# Altium schematic symbol library SiLabs Microcontroller 8-Bit 8051.SchLib: 120 symbols (part 3 of 9)
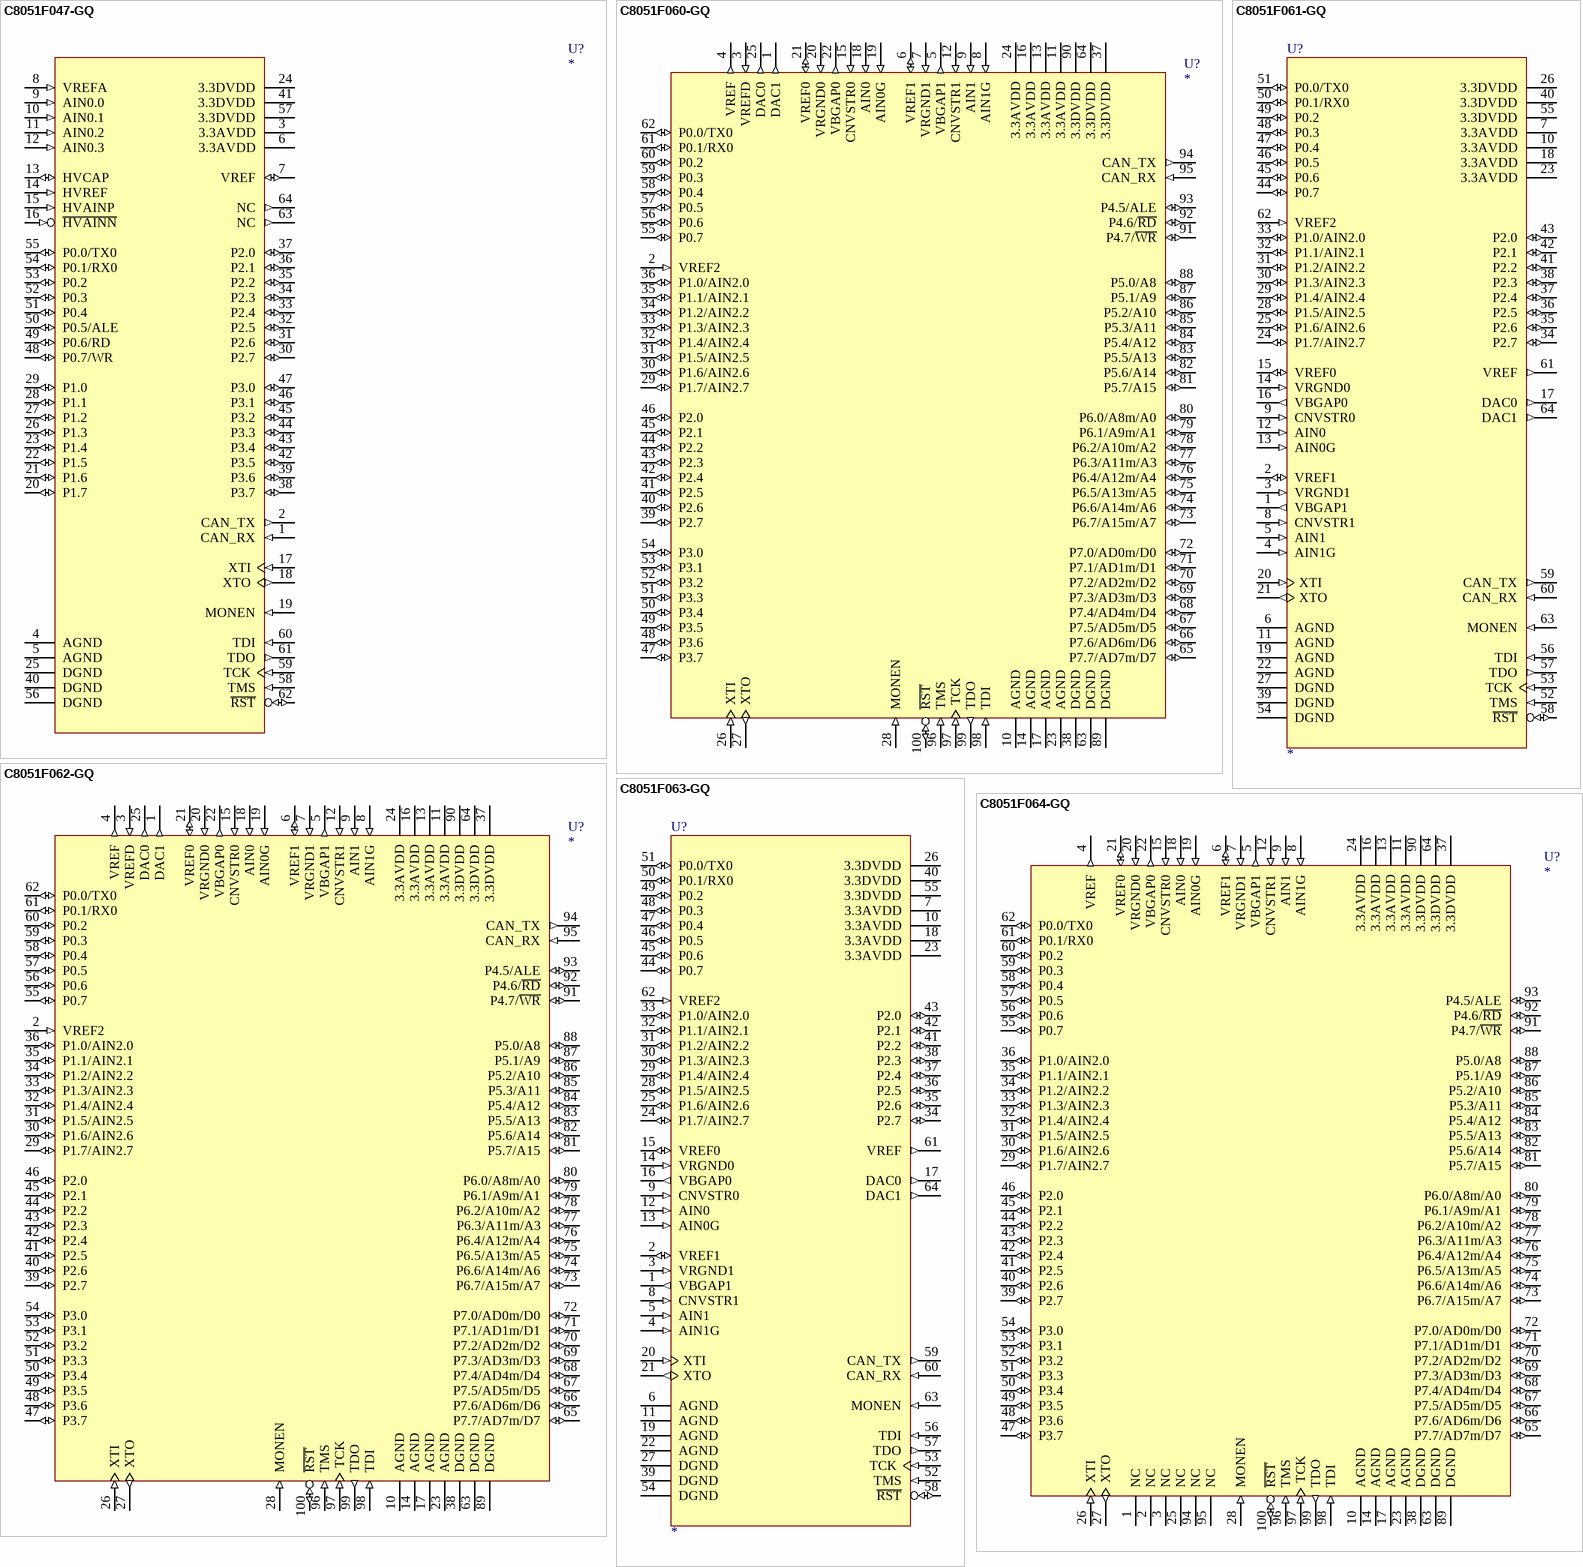
[diagram p16: symbols C8051F047-GQ to C8051F064-GQ]

## C8051F061-GQ
designator U?
CAN 8051 Microcontroller, 25MIPS, 64KiB Flash, 256Byte RAM + 4KiB XRAM, Internal Oscillator, 5-16bit Timer, 2CH 1Msps +/-0.75INL 16bit ADC, 8CH 200ksps 10bit ADC, 2CH 12bit DAC, CAN 2.0B, 2 UART, I2C, SPI, PCA, 3 Comparator, 24GPIO.; Manufacture: Silicon Laboratories; Compliant: RoHS; CompliantInformationSource: Silicon Laboratries; PackageDocument: 2004-07; TempertureRange: Industrial (-40 to +85Cel); ComponentLink1Description: Manufacture Link; ComponentLink1URL: http://www.silabs.com/; ComponentLink2Description: Datasheet; ComponentLink2URL: https://www.silabs.com/Support Documents/TechnicalDocs/C8051F06x.pdf; DatasheetDocument: Rev. 1.2, 2004-07; PackageReference: TQFP-64; Published: 2006-05-07; Publisher: A and A System Co., Ltd.; DigiKeyPartNumber: 336-1215-ND
footprint TQFP-64/e0.5 (TQFP-64; Body Width 12mm; Pitch 0.5mm)
pins: 1 VBGAP1 (out) "ADC1 Bandgap Bypass Pin.", 2 VREF1 (io) "Bandgap Voltage Reference Output for ADC1. ADC1 Voltage Reference Input.", 3 VRGND1 (in) "ADC1 Voltage Reference Ground. This pin should  be grounded if using the ADC.", 4 AIN1G (in) "ADC1 DC Bias Input (See ADC1 Specification for complete description).", 5 AIN1 (in) "ADC1 Signal Input (See ADC1 Specification for complete description).", 6 AGND (power) "Analog Ground. Must be tied to Ground.", 7 3.3AVDD (power) "Analog Supply Voltage. Must be tied to +2.7 to  +3.6 V.", 8 CNVSTR1 (in) "External Conversion Start Source for ADC1", 9 CNVSTR0 (in) "External Conversion Start Source for ADC0", 10 3.3AVDD (power) "Analog Supply Voltage. Must be tied to +2.7 to  +3.6 V.", 11 AGND (power) "Analog Ground. Must be tied to Ground.", 12 AIN0 (in) "ADC0 Input Channel 0 (See ADC0 Specification for complete description).", 13 AIN0G (in) "ADC0 DC Bias Input (See ADC0 Specification for complete description).", 14 VRGND0 (in) "ADC0 Voltage Reference Ground. This pin should  be grounded if using the ADC.", 15 VREF0 (io) "Bandgap Voltage Reference Output for ADC0. ADC0 Voltage Reference Input.", 16 VBGAP0 (out) "ADC0 Bandgap Bypass Pin.", 17 DAC0 (out) "Digital to Analog Converter 0 Voltage Output. (See DAC Specification for complete description).", 18 3.3AVDD (power) "Analog Supply Voltage. Must be tied to +2.7 to  +3.6 V.", 19 AGND (power) "Analog Ground. Must be tied to Ground.", 20 XTI (in) "Crystal Input. This pin is the return for the internal oscillator circuit for a crystal or ceramic resonator. For a precision internal clock, connect a crystal or ceramic resonator from XTAL1 to XTAL2. If overdriven by an external CMOS clock, this become", 21 XTO (out) "Crystal Output. This pin is the excitation driver for a crystal or ceramic resonator.", 22 AGND (power) "Analog Ground. Must be tied to Ground.", 23 3.3AVDD (power) "Analog Supply Voltage. Must be tied to +2.7 to  +3.6 V.", 24 P1.7/AIN2.7 (io) "Port 1.7. See Port Input/Output section for complete description. ADC2 Input Channel 7 (C8051F060/1/2/3 Only).", 25 P1.6/AIN2.6 (io) "Port 1.6. See Port Input/Output section for complete description. ADC2 Input Channel 6 (C8051F060/1/2/3 Only).", 26 3.3DVDD (power) "Digital Supply Voltage. Must be tied to +2.7 to +3.6 V.", 27 DGND (power) "Digital Ground. Must be tied to Ground.", 28 P1.5/AIN2.5 (io) "Port 1.5. See Port Input/Output section for complete description. ADC2 Input Channel 5 (C8051F060/1/2/3 Only).", 29 P1.4/AIN2.4 (io) "Port 1.4. See Port Input/Output section for complete description. ADC2 Input Channel 4 (C8051F060/1/2/3 Only).", 30 P1.3/AIN2.3 (io) "Port 1.3. See Port Input/Output section for complete description. ADC2 Input Channel 3 (C8051F060/1/2/3 Only).", 31 P1.2/AIN2.2 (io) "Port 1.2. See Port Input/Output section for complete description. ADC2 Input Channel 2 (C8051F060/1/2/3 Only).", 32 P1.1/AIN2.1 (io) "Port 1.1. See Port Input/Output section for complete description. ADC2 Input Channel 1 (C8051F060/1/2/3 Only).", 33 P1.0/AIN2.0 (io) "Port 1.0. See Port Input/Output section for complete description. ADC2 Input Channel 0 (C8051F060/1/2/3 Only).", 34 P2.7 (io) "Port 2.7. See Port Input/Output section for complete description.", 35 P2.6 (io) "Port 2.6. See Port Input/Output section for complete description.", 36 P2.5 (io) "Port 2.5. See Port Input/Output section for complete description.", 37 P2.4 (io) "Port 2.4. See Port Input/Output section for complete description.", 38 P2.3 (io) "Port 2.3. See Port Input/Output section for complete description.", 39 DGND (power) "Digital Ground. Must be tied to Ground.", 40 3.3DVDD (power) "Digital Supply Voltage. Must be tied to +2.7 to +3.6 V.", 41 P2.2 (io) "Port 2.2. See Port Input/Output section for complete description.", 42 P2.1 (io) "Port 2.1. See Port Input/Output section for complete description.", 43 P2.0 (io) "Port 2.0. See Port Input/Output section for complete description.", 44 P0.7 (io) "Port 0.7. See Port Input/Output section for complete description.", 45 P0.6 (io) "Port 0.6. See Port Input/Output section for complete description.", 46 P0.5 (io) "Port 0.5. See Port Input/Output section for complete description.", 47 P0.4 (io) "Port 0.4. See Port Input/Output section for complete description.", 48 P0.3 (io) "Port 0.3. See Port Input/Output section for complete description.", 49 P0.2 (io) "Port 0.2. See Port Input/Output section for complete description.", 50 P0.1/RX0 (io) "Port 0.1. See Port Input/Output section for complete description.", 51 P0.0/TX0 (io) "Port 0.0. See Port Input/Output section for complete description.", 52 TMS (in) "JTAG Test Mode Select with internal pullup.", 53 TCK (in) "JTAG Test Clock with internal pullup.", 54 DGND (power) "Digital Ground. Must be tied to Ground.", 55 3.3DVDD (power) "Digital Supply Voltage. Must be tied to +2.7 to +3.6 V.", 56 TDI (in) "JTAG Test Data Input with internal pullup.TDI is latched on the rising edge of TCK.", 57 TDO (out) "JTAG Test Data Output with internal pullup. Data is shifted out on TDO on the falling edge of TCK.  TDO output is a tri-state driver.", 58 ~{RST} (io) "Device Reset. Open-drain output of internal VDD monitor. Is driven low when VDD is < VRST and  MONEN is high. An external source can initiate  a system reset by driving this pin low.", 59 CAN_TX (out) "Controller Area Network Transmit Output.", 60 CAN_RX (in) "Controller Area Network Receive Input.", 61 VREF (out) "Bandgap Voltage Reference Output", 62 VREF2 (in) "ADC2, DAC0, and DAC1 Voltage Reference Input.", 63 MONEN (in) "VDD Monitor Enable. When tied high, this pin enables the internal VDD monitor, which forces a system reset when VDD is < VRST. When tied low, the internal VDD monitor is disabled. This pin must be tied high or low.", 64 DAC1 (out) "Digital to Analog Converter 1 Voltage Output. (See DAC Specification for complete description)."

## C8051F062-GQ
designator U?
CAN 8051 Microcontroller, 25MIPS, 64KiB Flash, 256Byte RAM + 4KiB XRAM, 64KiB EMIF, Internal Oscillator, 5-16bit Timer, 2CH 1Msps 16bit +/-1.5INL ADC, 8CH 200ksps 10bit ADC, 2CH 12bit DAC, CAN 2.0B, 2 UART, I2C, SPI, PCA, 3 Comparator, 59GPIO.; Manufacture: Silicon Laboratories; Compliant: RoHS; CompliantInformationSource: Silicon Laboratries; PackageDocument: 2004-07; TempertureRange: Industrial (-40 to +85Cel); ComponentLink1Description: Manufacture Link; ComponentLink1URL: http://www.silabs.com/; ComponentLink2Description: Datasheet; ComponentLink2URL: https://www.silabs.com/Support Documents/TechnicalDocs/C8051F06x.pdf; DatasheetDocument: Rev. 1.2, 2004-07; PackageReference: TQFP-100; Published: 2006-05-07; Publisher: A and A System Co., Ltd.; DigiKeyPartNumber: 336-1216-ND
footprint TQFP-100/e0.5 (TQFP-100; Body Width 16mm; Pitch 0.5mm)
pins: 1 DAC1 (out) "Digital to Analog Converter 1 Voltage Output. (See DAC Specification for complete description).", 2 VREF2 (in) "ADC2 Voltage Reference Input.", 3 VREFD (in) "DAC0 and DAC1 Voltage Reference Input.", 4 VREF (out) "Bandgap Voltage Reference Output", 5 VBGAP1 (out) "ADC1 Bandgap Bypass Pin.", 6 VREF1 (io) "Bandgap Voltage Reference Output for ADC1. ADC1 Voltage Reference Input.", 7 VRGND1 (in) "ADC1 Voltage Reference Ground. This pin should  be grounded if using the ADC.", 8 AIN1G (in) "ADC1 DC Bias Input (See ADC1 Specification for complete description).", 9 AIN1 (in) "ADC1 Signal Input (See ADC1 Specification for complete description).", 10 AGND (power) "Analog Ground. Must be tied to Ground.", 11 3.3AVDD (power) "Analog Supply Voltage. Must be tied to +2.7 to  +3.6 V.", 12 CNVSTR1 (in) "External Conversion Start Source for ADC1", 13 3.3AVDD (power) "Analog Supply Voltage. Must be tied to +2.7 to  +3.6 V.", 14 AGND (power) "Analog Ground. Must be tied to Ground.", 15 CNVSTR0 (in) "External Conversion Start Source for ADC0", 16 3.3AVDD (power) "Analog Supply Voltage. Must be tied to +2.7 to  +3.6 V.", 17 AGND (power) "Analog Ground. Must be tied to Ground.", 18 AIN0 (in) "ADC0 Input Channel 0 (See ADC0 Specification for complete description).", 19 AIN0G (in) "ADC0 DC Bias Input (See ADC0 Specification for complete description).", 20 VRGND0 (in) "ADC0 Voltage Reference Ground. This pin should  be grounded if using the ADC.", 21 VREF0 (io) "Bandgap Voltage Reference Output for ADC0. ADC0 Voltage Reference Input.", 22 VBGAP0 (out) "ADC0 Bandgap Bypass Pin.", 23 AGND (power) "Analog Ground. Must be tied to Ground.", 24 3.3AVDD (power) "Analog Supply Voltage. Must be tied to +2.7 to  +3.6 V.", 25 DAC0 (out) "Digital to Analog Converter 0 Voltage Output. (See DAC Specification for complete description).", 26 XTI (in) "Crystal Input. This pin is the return for the internal oscillator circuit for a crystal or ceramic resonator. For a precision internal clock, connect a crystal or ceramic resonator from XTAL1 to XTAL2. If overdriven by an external CMOS clock, this become", 27 XTO (out) "Crystal Output. This pin is the excitation driver for a crystal or ceramic resonator.", 28 MONEN (in) "VDD Monitor Enable. When tied high, this pin enables the internal VDD monitor, which forces a system reset when VDD is < VRST. When tied low, the internal VDD monitor is disabled. This pin must be tied high or low.", 29 P1.7/AIN2.7 (io) "Port 1.7. See Port Input/Output section for complete description. ADC2 Input Channel 7 (C8051F060/1/2/3 Only).", 30 P1.6/AIN2.6 (io) "Port 1.6. See Port Input/Output section for complete description. ADC2 Input Channel 6 (C8051F060/1/2/3 Only).", 31 P1.5/AIN2.5 (io) "Port 1.5. See Port Input/Output section for complete description. ADC2 Input Channel 5 (C8051F060/1/2/3 Only).", 32 P1.4/AIN2.4 (io) "Port 1.4. See Port Input/Output section for complete description. ADC2 Input Channel 4 (C8051F060/1/2/3 Only).", 33 P1.3/AIN2.3 (io) "Port 1.3. See Port Input/Output section for complete description. ADC2 Input Channel 3 (C8051F060/1/2/3 Only).", 34 P1.2/AIN2.2 (io) "Port 1.2. See Port Input/Output section for complete description. ADC2 Input Channel 2 (C8051F060/1/2/3 Only).", 35 P1.1/AIN2.1 (io) "Port 1.1. See Port Input/Output section for complete description. ADC2 Input Channel 1 (C8051F060/1/2/3 Only).", 36 P1.0/AIN2.0 (io) "Port 1.0. See Port Input/Output section for complete description. ADC2 Input Channel 0 (C8051F060/1/2/3 Only).", 37 3.3DVDD (power) "Digital Supply Voltage. Must be tied to +2.7 to +3.6 V.", 38 DGND (power) "Digital Ground. Must be tied to Ground.", 39 P2.7 (io) "Port 2.7. See Port Input/Output section for complete description.", 40 P2.6 (io) "Port 2.6. See Port Input/Output section for complete description.", 41 P2.5 (io) "Port 2.5. See Port Input/Output section for complete description.", 42 P2.4 (io) "Port 2.4. See Port Input/Output section for complete description.", 43 P2.3 (io) "Port 2.3. See Port Input/Output section for complete description.", 44 P2.2 (io) "Port 2.2. See Port Input/Output section for complete description.", 45 P2.1 (io) "Port 2.1. See Port Input/Output section for complete description.", 46 P2.0 (io) "Port 2.0. See Port Input/Output section for complete description.", 47 P3.7 (io) "Port 3.7. See Port Input/Output section for complete description.", 48 P3.6 (io) "Port 3.6. See Port Input/Output section for complete description.", 49 P3.5 (io) "Port 3.5. See Port Input/Output section for complete description.", 50 P3.4 (io) "Port 3.4. See Port Input/Output section for complete description.", 51 P3.3 (io) "Port 3.3. See Port Input/Output section for complete description.", 52 P3.2 (io) "Port 3.2. See Port Input/Output section for complete description.", 53 P3.1 (io) "Port 3.1. See Port Input/Output section for complete description.", 54 P3.0 (io) "Port 3.0. See Port Input/Output section for complete description.", 55 P0.7 (io) "Port 0.7. See Port Input/Output section for complete description.", 56 P0.6 (io) "Port 0.6. See Port Input/Output section for complete description.", 57 P0.5 (io) "Port 0.5. See Port Input/Output section for complete description.", 58 P0.4 (io) "Port 0.4. See Port Input/Output section for complete description.", 59 P0.3 (io) "Port 0.3. See Port Input/Output section for complete description.", 60 P0.2 (io) "Port 0.2. See Port Input/Output section for complete description.", 61 P0.1/RX0 (io) "Port 0.1. See Port Input/Output section for complete description.", 62 P0.0/TX0 (io) "Port 0.0. See Port Input/Output section for complete description.", 63 DGND (power) "Digital Ground. Must be tied to Ground.", 64 3.3DVDD (power) "Digital Supply Voltage. Must be tied to +2.7 to +3.6 V.", 65 P7.7/AD7m/D7 (io) "Port 7.7. See Port Input/Output section for complete description.", 66 P7.6/AD6m/D6 (io) "Port 7.6. See Port Input/Output section for complete description.", 67 P7.5/AD5m/D5 (io) "Port 7.5. See Port Input/Output section for complete description.", 68 P7.4/AD4m/D4 (io) "Port 7.4. See Port Input/Output section for complete description.", 69 P7.3/AD3m/D3 (io) "Port 7.3. See Port Input/Output section for complete description.", 70 P7.2/AD2m/D2 (io) "Port 7.2. See Port Input/Output section for complete description.", 71 P7.1/AD1m/D1 (io) "Port 7.1. See Port Input/Output section for complete description.", 72 P7.0/AD0m/D0 (io) "Port 7.0. Bit 0 External Memory Address/Data bus (Multiplexed mode) Bit 0 External Memory Data bus (Non-multiplexed mode) See Port Input/Output section for complete description.", 73 P6.7/A15m/A7 (io) "Port 6.7. See Port Input/Output section for complete description.", 74 P6.6/A14m/A6 (io) "Port 6.6. See Port Input/Output section for complete description.", 75 P6.5/A13m/A5 (io) "Port 6.5. See Port Input/Output section for complete description.", 76 P6.4/A12m/A4 (io) "Port 6.4. See Port Input/Output section for complete description.", 77 P6.3/A11m/A3 (io) "Port 6.3. See Port Input/Output section for complete description.", 78 P6.2/A10m/A2 (io) "Port 6.2. See Port Input/Output section for complete description.", 79 P6.1/A9m/A1 (io) "Port 6.1. See Port Input/Output section for complete description.", 80 P6.0/A8m/A0 (io) "Port6.0. Bit 8 External Memory Address bus (Multiplexed mode) Bit 0 External Memory Address bus (Non-multiplexed mode) See Port Input/Output section for complete description.", 81 P5.7/A15 (io) "Port 5.7. See Port Input/Output section for complete description.", 82 P5.6/A14 (io) "Port 5.6. See Port Input/Output section for complete description.", 83 P5.5/A13 (io) "Port 5.5. See Port Input/Output section for complete description.", 84 P5.4/A12 (io) "Port 5.4. See Port Input/Output section for complete description.", 85 P5.3/A11 (io) "Port 5.3. See Port Input/Output section for complete description.", 86 P5.2/A10 (io) "Port 5.2. See Port Input/Output section for complete description.", 87 P5.1/A9 (io) "Port 5.1. See Port Input/Output section for complete description.", 88 P5.0/A8 (io) "Port 5.0. Bit 8 External Memory Address bus (Non-multiplexed mode) See Port Input/Output section for complete description.", 89 DGND (power) "Digital Ground. Must be tied to Ground.", 90 3.3DVDD (power) "Digital Supply Voltage. Must be tied to +2.7 to +3.6 V.", 91 P4.7/~{WR} (io) "Port 4.7. WR Strobe for External Memory Address bus. See Port Input/Output section for complete description.", 92 P4.6/~{RD} (io) "P4.6. RD Strobe for External Memory Address bus. See Port Input/Output section for complete description.", 93 P4.5/ALE (io) "Port 4.5, ALE Strobe for External Memory Address bus (multiplexed mode) See Port Input/Output section for complete description.", 94 CAN_TX (out) "Controller Area Network Transmit Output.", 95 CAN_RX (in) "Controller Area Network Receive Input.", 96 TMS (in) "JTAG Test Mode Select with internal pullup.", 97 TCK (in) "JTAG Test Clock with internal pullup.", 98 TDI (in) "JTAG Test Data Input with internal pullup.TDI is latched on the rising edge of TCK.", 99 TDO (out) "JTAG Test Data Output with internal pullup. Data is shifted out on TDO on the falling edge of TCK.  TDO output is a tri-state driver.", 100 ~{RST} (io) "Device Reset. Open-drain output of internal VDD monitor. Is driven low when VDD is < VRST and  MONEN is high. An external source can initiate  a system reset by driving this pin low."

## C8051F063-GQ
designator U?
CAN 8051 Microcontroller, 25MIPS, 64KiB Flash, 256Byte RAM + 4KiB XRAM, Internal Oscillator, 5-16bit Timer, 2CH 1Msps +/-1.5INL 16bit ADC, 8CH 200ksps 10bit ADC, 2CH 12bit DAC, CAN 2.0B, 2 UART, I2C, SPI, PCA, 3 Comparator, 24GPIO.; Manufacture: Silicon Laboratories; Compliant: RoHS; CompliantInformationSource: Silicon Laboratries; PackageDocument: 2004-07; TempertureRange: Industrial (-40 to +85Cel); ComponentLink1Description: Manufacture Link; ComponentLink1URL: http://www.silabs.com/; ComponentLink2Description: Datasheet; ComponentLink2URL: https://www.silabs.com/Support Documents/TechnicalDocs/C8051F06x.pdf; DatasheetDocument: Rev. 1.2, 2004-07; PackageReference: TQFP-64; Published: 2006-05-07; Publisher: A and A System Co., Ltd.; DigiKeyPartNumber: 336-1217-ND
footprint TQFP-64/e0.5 (TQFP-64; Body Width 12mm; Pitch 0.5mm)
pins: 1 VBGAP1 (out) "ADC1 Bandgap Bypass Pin.", 2 VREF1 (io) "Bandgap Voltage Reference Output for ADC1. ADC1 Voltage Reference Input.", 3 VRGND1 (in) "ADC1 Voltage Reference Ground. This pin should  be grounded if using the ADC.", 4 AIN1G (in) "ADC1 DC Bias Input (See ADC1 Specification for complete description).", 5 AIN1 (in) "ADC1 Signal Input (See ADC1 Specification for complete description).", 6 AGND (power) "Analog Ground. Must be tied to Ground.", 7 3.3AVDD (power) "Analog Supply Voltage. Must be tied to +2.7 to  +3.6 V.", 8 CNVSTR1 (in) "External Conversion Start Source for ADC1", 9 CNVSTR0 (in) "External Conversion Start Source for ADC0", 10 3.3AVDD (power) "Analog Supply Voltage. Must be tied to +2.7 to  +3.6 V.", 11 AGND (power) "Analog Ground. Must be tied to Ground.", 12 AIN0 (in) "ADC0 Input Channel 0 (See ADC0 Specification for complete description).", 13 AIN0G (in) "ADC0 DC Bias Input (See ADC0 Specification for complete description).", 14 VRGND0 (in) "ADC0 Voltage Reference Ground. This pin should  be grounded if using the ADC.", 15 VREF0 (io) "Bandgap Voltage Reference Output for ADC0. ADC0 Voltage Reference Input.", 16 VBGAP0 (out) "ADC0 Bandgap Bypass Pin.", 17 DAC0 (out) "Digital to Analog Converter 0 Voltage Output. (See DAC Specification for complete description).", 18 3.3AVDD (power) "Analog Supply Voltage. Must be tied to +2.7 to  +3.6 V.", 19 AGND (power) "Analog Ground. Must be tied to Ground.", 20 XTI (in) "Crystal Input. This pin is the return for the internal oscillator circuit for a crystal or ceramic resonator. For a precision internal clock, connect a crystal or ceramic resonator from XTAL1 to XTAL2. If overdriven by an external CMOS clock, this become", 21 XTO (out) "Crystal Output. This pin is the excitation driver for a crystal or ceramic resonator.", 22 AGND (power) "Analog Ground. Must be tied to Ground.", 23 3.3AVDD (power) "Analog Supply Voltage. Must be tied to +2.7 to  +3.6 V.", 24 P1.7/AIN2.7 (io) "Port 1.7. See Port Input/Output section for complete description. ADC2 Input Channel 7 (C8051F060/1/2/3 Only).", 25 P1.6/AIN2.6 (io) "Port 1.6. See Port Input/Output section for complete description. ADC2 Input Channel 6 (C8051F060/1/2/3 Only).", 26 3.3DVDD (power) "Digital Supply Voltage. Must be tied to +2.7 to +3.6 V.", 27 DGND (power) "Digital Ground. Must be tied to Ground.", 28 P1.5/AIN2.5 (io) "Port 1.5. See Port Input/Output section for complete description. ADC2 Input Channel 5 (C8051F060/1/2/3 Only).", 29 P1.4/AIN2.4 (io) "Port 1.4. See Port Input/Output section for complete description. ADC2 Input Channel 4 (C8051F060/1/2/3 Only).", 30 P1.3/AIN2.3 (io) "Port 1.3. See Port Input/Output section for complete description. ADC2 Input Channel 3 (C8051F060/1/2/3 Only).", 31 P1.2/AIN2.2 (io) "Port 1.2. See Port Input/Output section for complete description. ADC2 Input Channel 2 (C8051F060/1/2/3 Only).", 32 P1.1/AIN2.1 (io) "Port 1.1. See Port Input/Output section for complete description. ADC2 Input Channel 1 (C8051F060/1/2/3 Only).", 33 P1.0/AIN2.0 (io) "Port 1.0. See Port Input/Output section for complete description. ADC2 Input Channel 0 (C8051F060/1/2/3 Only).", 34 P2.7 (io) "Port 2.7. See Port Input/Output section for complete description.", 35 P2.6 (io) "Port 2.6. See Port Input/Output section for complete description.", 36 P2.5 (io) "Port 2.5. See Port Input/Output section for complete description.", 37 P2.4 (io) "Port 2.4. See Port Input/Output section for complete description.", 38 P2.3 (io) "Port 2.3. See Port Input/Output section for complete description.", 39 DGND (power) "Digital Ground. Must be tied to Ground.", 40 3.3DVDD (power) "Digital Supply Voltage. Must be tied to +2.7 to +3.6 V.", 41 P2.2 (io) "Port 2.2. See Port Input/Output section for complete description.", 42 P2.1 (io) "Port 2.1. See Port Input/Output section for complete description.", 43 P2.0 (io) "Port 2.0. See Port Input/Output section for complete description.", 44 P0.7 (io) "Port 0.7. See Port Input/Output section for complete description.", 45 P0.6 (io) "Port 0.6. See Port Input/Output section for complete description.", 46 P0.5 (io) "Port 0.5. See Port Input/Output section for complete description.", 47 P0.4 (io) "Port 0.4. See Port Input/Output section for complete description.", 48 P0.3 (io) "Port 0.3. See Port Input/Output section for complete description.", 49 P0.2 (io) "Port 0.2. See Port Input/Output section for complete description.", 50 P0.1/RX0 (io) "Port 0.1. See Port Input/Output section for complete description.", 51 P0.0/TX0 (io) "Port 0.0. See Port Input/Output section for complete description.", 52 TMS (in) "JTAG Test Mode Select with internal pullup.", 53 TCK (in) "JTAG Test Clock with internal pullup.", 54 DGND (power) "Digital Ground. Must be tied to Ground.", 55 3.3DVDD (power) "Digital Supply Voltage. Must be tied to +2.7 to +3.6 V.", 56 TDI (in) "JTAG Test Data Input with internal pullup.TDI is latched on the rising edge of TCK.", 57 TDO (out) "JTAG Test Data Output with internal pullup. Data is shifted out on TDO on the falling edge of TCK.  TDO output is a tri-state driver.", 58 ~{RST} (io) "Device Reset. Open-drain output of internal VDD monitor. Is driven low when VDD is < VRST and  MONEN is high. An external source can initiate  a system reset by driving this pin low.", 59 CAN_TX (out) "Controller Area Network Transmit Output.", 60 CAN_RX (in) "Controller Area Network Receive Input.", 61 VREF (out) "Bandgap Voltage Reference Output", 62 VREF2 (in) "ADC2, DAC0, and DAC1 Voltage Reference Input.", 63 MONEN (in) "VDD Monitor Enable. When tied high, this pin enables the internal VDD monitor, which forces a system reset when VDD is < VRST. When tied low, the internal VDD monitor is disabled. This pin must be tied high or low.", 64 DAC1 (out) "Digital to Analog Converter 1 Voltage Output. (See DAC Specification for complete description)."

## C8051F064-GQ
designator U?
8051 Microcontroller, 25MIPS, 64KiB Flash, 256Byte RAM + 4KiB XRAM, 64KiB EMIF, Internal Oscillator, 5-16bit Timer, 2CH 1Msps 16bit +/-0.75INL ADC, 2 UART, I2C, SPI, PCA, 3 Comparator, 59GPIO.; Manufacture: Silicon Laboratories; Compliant: RoHS; CompliantInformationSource: Silicon Laboratries; PackageDocument: 2004-07; TempertureRange: Industrial (-40 to +85Cel); ComponentLink1Description: Manufacture Link; ComponentLink1URL: http://www.silabs.com/; ComponentLink2Description: Datasheet; ComponentLink2URL: https://www.silabs.com/Support Documents/TechnicalDocs/C8051F06x.pdf; DatasheetDocument: Rev. 1.2, 2004-07; PackageReference: TQFP-100; Published: 2006-05-07; Publisher: A and A System Co., Ltd.; DigiKeyPartNumber: 336-1218-ND
footprint TQFP-100/e0.5 (TQFP-100; Body Width 16mm; Pitch 0.5mm)
pins: 1 NC "No Connection.", 2 NC "No Connection.", 3 NC "No Connection.", 4 VREF (out) "Bandgap Voltage Reference Output", 5 VBGAP1 (out) "ADC1 Bandgap Bypass Pin.", 6 VREF1 (io) "Bandgap Voltage Reference Output for ADC1. ADC1 Voltage Reference Input.", 7 VRGND1 (in) "ADC1 Voltage Reference Ground. This pin should  be grounded if using the ADC.", 8 AIN1G (in) "ADC1 DC Bias Input (See ADC1 Specification for complete description).", 9 AIN1 (in) "ADC1 Signal Input (See ADC1 Specification for complete description).", 10 AGND (power) "Analog Ground. Must be tied to Ground.", 11 3.3AVDD (power) "Analog Supply Voltage. Must be tied to +2.7 to  +3.6 V.", 12 CNVSTR1 (in) "External Conversion Start Source for ADC1", 13 3.3AVDD (power) "Analog Supply Voltage. Must be tied to +2.7 to  +3.6 V.", 14 AGND (power) "Analog Ground. Must be tied to Ground.", 15 CNVSTR0 (in) "External Conversion Start Source for ADC0", 16 3.3AVDD (power) "Analog Supply Voltage. Must be tied to +2.7 to  +3.6 V.", 17 AGND (power) "Analog Ground. Must be tied to Ground.", 18 AIN0 (in) "ADC0 Input Channel 0 (See ADC0 Specification for complete description).", 19 AIN0G (in) "ADC0 DC Bias Input (See ADC0 Specification for complete description).", 20 VRGND0 (in) "ADC0 Voltage Reference Ground. This pin should  be grounded if using the ADC.", 21 VREF0 (io) "Bandgap Voltage Reference Output for ADC0. ADC0 Voltage Reference Input.", 22 VBGAP0 (out) "ADC0 Bandgap Bypass Pin.", 23 AGND (power) "Analog Ground. Must be tied to Ground.", 24 3.3AVDD (power) "Analog Supply Voltage. Must be tied to +2.7 to  +3.6 V.", 25 NC "No Connection.", 26 XTI (in) "Crystal Input. This pin is the return for the internal oscillator circuit for a crystal or ceramic resonator. For a precision internal clock, connect a crystal or ceramic resonator from XTAL1 to XTAL2. If overdriven by an external CMOS clock, this become", 27 XTO (out) "Crystal Output. This pin is the excitation driver for a crystal or ceramic resonator.", 28 MONEN (in) "VDD Monitor Enable. When tied high, this pin enables the internal VDD monitor, which forces a system reset when VDD is < VRST. When tied low, the internal VDD monitor is disabled. This pin must be tied high or low.", 29 P1.7/AIN2.7 (io) "Port 1.7. See Port Input/Output section for complete description. ADC2 Input Channel 7 (C8051F060/1/2/3 Only).", 30 P1.6/AIN2.6 (io) "Port 1.6. See Port Input/Output section for complete description. ADC2 Input Channel 6 (C8051F060/1/2/3 Only).", 31 P1.5/AIN2.5 (io) "Port 1.5. See Port Input/Output section for complete description. ADC2 Input Channel 5 (C8051F060/1/2/3 Only).", 32 P1.4/AIN2.4 (io) "Port 1.4. See Port Input/Output section for complete description. ADC2 Input Channel 4 (C8051F060/1/2/3 Only).", 33 P1.3/AIN2.3 (io) "Port 1.3. See Port Input/Output section for complete description. ADC2 Input Channel 3 (C8051F060/1/2/3 Only).", 34 P1.2/AIN2.2 (io) "Port 1.2. See Port Input/Output section for complete description. ADC2 Input Channel 2 (C8051F060/1/2/3 Only).", 35 P1.1/AIN2.1 (io) "Port 1.1. See Port Input/Output section for complete description. ADC2 Input Channel 1 (C8051F060/1/2/3 Only).", 36 P1.0/AIN2.0 (io) "Port 1.0. See Port Input/Output section for complete description. ADC2 Input Channel 0 (C8051F060/1/2/3 Only).", 37 3.3DVDD (power) "Digital Supply Voltage. Must be tied to +2.7 to +3.6 V.", 38 DGND (power) "Digital Ground. Must be tied to Ground.", 39 P2.7 (io) "Port 2.7. See Port Input/Output section for complete description.", 40 P2.6 (io) "Port 2.6. See Port Input/Output section for complete description.", 41 P2.5 (io) "Port 2.5. See Port Input/Output section for complete description.", 42 P2.4 (io) "Port 2.4. See Port Input/Output section for complete description.", 43 P2.3 (io) "Port 2.3. See Port Input/Output section for complete description.", 44 P2.2 (io) "Port 2.2. See Port Input/Output section for complete description.", 45 P2.1 (io) "Port 2.1. See Port Input/Output section for complete description.", 46 P2.0 (io) "Port 2.0. See Port Input/Output section for complete description.", 47 P3.7 (io) "Port 3.7. See Port Input/Output section for complete description.", 48 P3.6 (io) "Port 3.6. See Port Input/Output section for complete description.", 49 P3.5 (io) "Port 3.5. See Port Input/Output section for complete description.", 50 P3.4 (io) "Port 3.4. See Port Input/Output section for complete description.", 51 P3.3 (io) "Port 3.3. See Port Input/Output section for complete description.", 52 P3.2 (io) "Port 3.2. See Port Input/Output section for complete description.", 53 P3.1 (io) "Port 3.1. See Port Input/Output section for complete description.", 54 P3.0 (io) "Port 3.0. See Port Input/Output section for complete description.", 55 P0.7 (io) "Port 0.7. See Port Input/Output section for complete description.", 56 P0.6 (io) "Port 0.6. See Port Input/Output section for complete description.", 57 P0.5 (io) "Port 0.5. See Port Input/Output section for complete description.", 58 P0.4 (io) "Port 0.4. See Port Input/Output section for complete description.", 59 P0.3 (io) "Port 0.3. See Port Input/Output section for complete description.", 60 P0.2 (io) "Port 0.2. See Port Input/Output section for complete description.", 61 P0.1/RX0 (io) "Port 0.1. See Port Input/Output section for complete description.", 62 P0.0/TX0 (io) "Port 0.0. See Port Input/Output section for complete description.", 63 DGND (power) "Digital Ground. Must be tied to Ground.", 64 3.3DVDD (power) "Digital Supply Voltage. Must be tied to +2.7 to +3.6 V.", 65 P7.7/AD7m/D7 (io) "Port 7.7. See Port Input/Output section for complete description.", 66 P7.6/AD6m/D6 (io) "Port 7.6. See Port Input/Output section for complete description.", 67 P7.5/AD5m/D5 (io) "Port 7.5. See Port Input/Output section for complete description.", 68 P7.4/AD4m/D4 (io) "Port 7.4. See Port Input/Output section for complete description.", 69 P7.3/AD3m/D3 (io) "Port 7.3. See Port Input/Output section for complete description.", 70 P7.2/AD2m/D2 (io) "Port 7.2. See Port Input/Output section for complete description.", 71 P7.1/AD1m/D1 (io) "Port 7.1. See Port Input/Output section for complete description.", 72 P7.0/AD0m/D0 (io) "Port 7.0. Bit 0 External Memory Address/Data bus (Multiplexed mode) Bit 0 External Memory Data bus (Non-multiplexed mode) See Port Input/Output section for complete description.", 73 P6.7/A15m/A7 (io) "Port 6.7. See Port Input/Output section for complete description.", 74 P6.6/A14m/A6 (io) "Port 6.6. See Port Input/Output section for complete description.", 75 P6.5/A13m/A5 (io) "Port 6.5. See Port Input/Output section for complete description.", 76 P6.4/A12m/A4 (io) "Port 6.4. See Port Input/Output section for complete description.", 77 P6.3/A11m/A3 (io) "Port 6.3. See Port Input/Output section for complete description.", 78 P6.2/A10m/A2 (io) "Port 6.2. See Port Input/Output section for complete description.", 79 P6.1/A9m/A1 (io) "Port 6.1. See Port Input/Output section for complete description.", 80 P6.0/A8m/A0 (io) "Port6.0. Bit 8 External Memory Address bus (Multiplexed mode) Bit 0 External Memory Address bus (Non-multiplexed mode) See Port Input/Output section for complete description.", 81 P5.7/A15 (io) "Port 5.7. See Port Input/Output section for complete description.", 82 P5.6/A14 (io) "Port 5.6. See Port Input/Output section for complete description.", 83 P5.5/A13 (io) "Port 5.5. See Port Input/Output section for complete description.", 84 P5.4/A12 (io) "Port 5.4. See Port Input/Output section for complete description.", 85 P5.3/A11 (io) "Port 5.3. See Port Input/Output section for complete description.", 86 P5.2/A10 (io) "Port 5.2. See Port Input/Output section for complete description.", 87 P5.1/A9 (io) "Port 5.1. See Port Input/Output section for complete description.", 88 P5.0/A8 (io) "Port 5.0. Bit 8 External Memory Address bus (Non-multiplexed mode) See Port Input/Output section for complete description.", 89 DGND (power) "Digital Ground. Must be tied to Ground.", 90 3.3DVDD (power) "Digital Supply Voltage. Must be tied to +2.7 to +3.6 V.", 91 P4.7/~{WR} (io) "Port 4.7. WR Strobe for External Memory Address bus. See Port Input/Output section for complete description.", 92 P4.6/~{RD} (io) "P4.6. RD Strobe for External Memory Address bus. See Port Input/Output section for complete description.", 93 P4.5/ALE (io) "Port 4.5, ALE Strobe for External Memory Address bus (multiplexed mode) See Port Input/Output section for complete description.", 94 NC "No Connection.", 95 NC "No Connection.", 96 TMS (in) "JTAG Test Mode Select with internal pullup.", 97 TCK (in) "JTAG Test Clock with internal pullup.", 98 TDI (in) "JTAG Test Data Input with internal pullup.TDI is latched on the rising edge of TCK.", 99 TDO (out) "JTAG Test Data Output with internal pullup. Data is shifted out on TDO on the falling edge of TCK.  TDO output is a tri-state driver.", 100 ~{RST} (io) "Device Reset. Open-drain output of internal VDD monitor. Is driven low when VDD is < VRST and  MONEN is high. An external source can initiate  a system reset by driving this pin low."

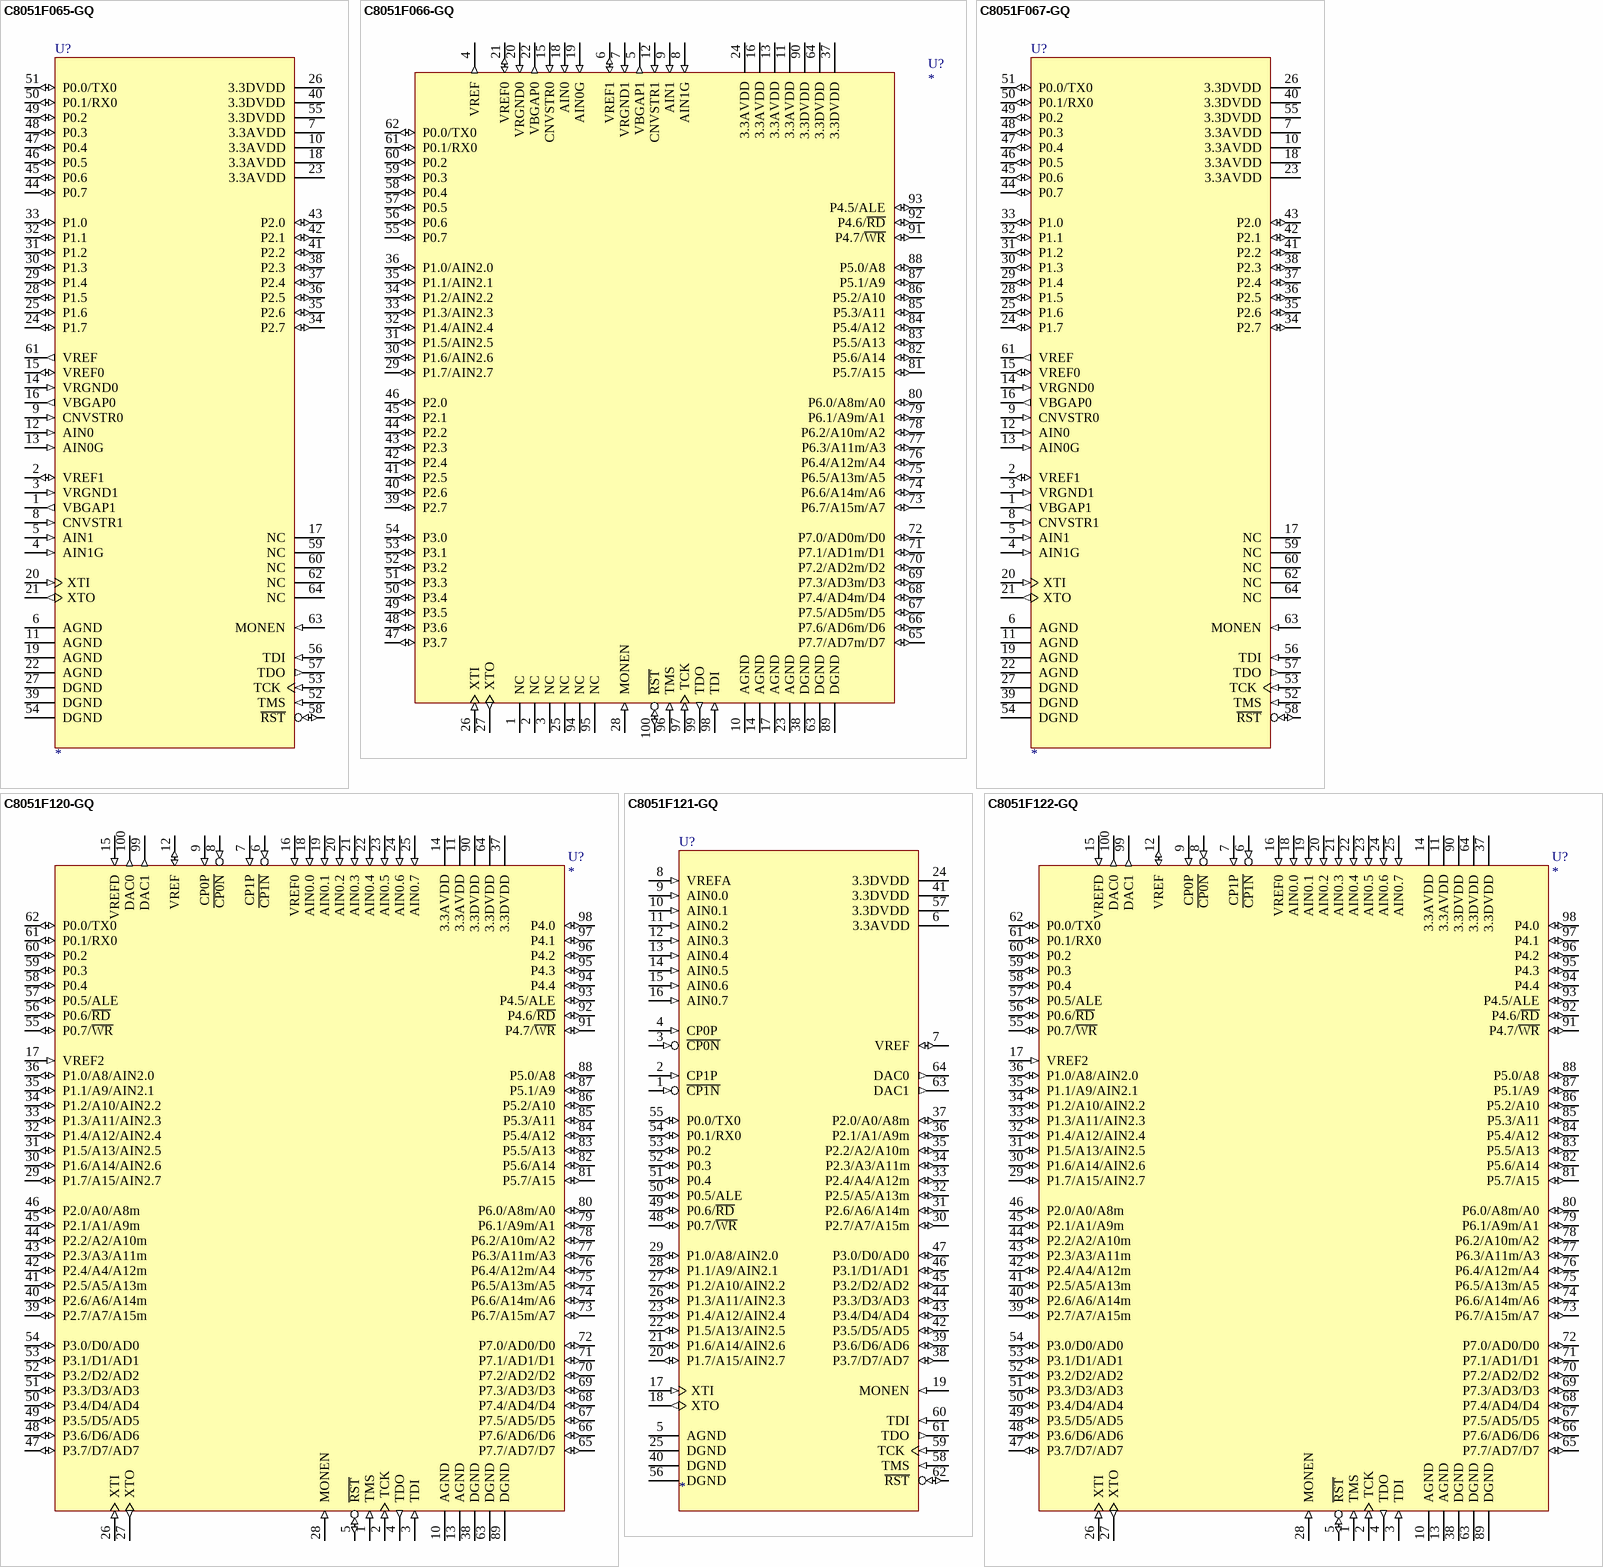
[diagram p7: symbols C8051F065-GQ to C8051F122-GQ]

## C8051F065-GQ
designator U?
8051 Microcontroller, 25MIPS, 64KiB Flash, 256Byte RAM + 4KiB XRAM, Internal Oscillator, 5-16bit Timer, 2CH 1Msps +/-0.75INL 16bit ADC, 2 UART, I2C, SPI, PCA, 3 Comparator, 24GPIO.; Manufacture: Silicon Laboratories; Compliant: RoHS; CompliantInformationSource: Silicon Laboratries; PackageDocument: 2004-07; TempertureRange: Industrial (-40 to +85Cel); ComponentLink1Description: Manufacture Link; ComponentLink1URL: http://www.silabs.com/; ComponentLink2Description: Datasheet; ComponentLink2URL: https://www.silabs.com/Support Documents/TechnicalDocs/C8051F06x.pdf; DatasheetDocument: Rev. 1.2, 2004-07; PackageReference: TQFP-64; Published: 2006-05-07; Publisher: A and A System Co., Ltd.; DigiKeyPartNumber: 336-1220-ND
footprint TQFP-64/e0.5 (TQFP-64; Body Width 12mm; Pitch 0.5mm)
pins: 1 VBGAP1 (out) "ADC1 Bandgap Bypass Pin.", 2 VREF1 (io) "Bandgap Voltage Reference Output for ADC1. ADC1 Voltage Reference Input.", 3 VRGND1 (in) "ADC1 Voltage Reference Ground. This pin should  be grounded if using the ADC.", 4 AIN1G (in) "ADC1 DC Bias Input (See ADC1 Specification for complete description).", 5 AIN1 (in) "ADC1 Signal Input (See ADC1 Specification for complete description).", 6 AGND (power) "Analog Ground. Must be tied to Ground.", 7 3.3AVDD (power) "Analog Supply Voltage. Must be tied to +2.7 to  +3.6 V.", 8 CNVSTR1 (in) "External Conversion Start Source for ADC1", 9 CNVSTR0 (in) "External Conversion Start Source for ADC0", 10 3.3AVDD (power) "Analog Supply Voltage. Must be tied to +2.7 to  +3.6 V.", 11 AGND (power) "Analog Ground. Must be tied to Ground.", 12 AIN0 (in) "ADC0 Input Channel 0 (See ADC0 Specification for complete description).", 13 AIN0G (in) "ADC0 DC Bias Input (See ADC0 Specification for complete description).", 14 VRGND0 (in) "ADC0 Voltage Reference Ground. This pin should  be grounded if using the ADC.", 15 VREF0 (io) "Bandgap Voltage Reference Output for ADC0. ADC0 Voltage Reference Input.", 16 VBGAP0 (out) "ADC0 Bandgap Bypass Pin.", 17 NC "No Connection.", 18 3.3AVDD (power) "Analog Supply Voltage. Must be tied to +2.7 to  +3.6 V.", 19 AGND (power) "Analog Ground. Must be tied to Ground.", 20 XTI (in) "Crystal Input. This pin is the return for the internal oscillator circuit for a crystal or ceramic resonator. For a precision internal clock, connect a crystal or ceramic resonator from XTAL1 to XTAL2. If overdriven by an external CMOS clock, this become", 21 XTO (out) "Crystal Output. This pin is the excitation driver for a crystal or ceramic resonator.", 22 AGND (power) "Analog Ground. Must be tied to Ground.", 23 3.3AVDD (power) "Analog Supply Voltage. Must be tied to +2.7 to  +3.6 V.", 24 P1.7 (io) "Port 1.7. See Port Input/Output section for complete description.", 25 P1.6 (io) "Port 1.6. See Port Input/Output section for complete description.", 26 3.3DVDD (power) "Digital Supply Voltage. Must be tied to +2.7 to +3.6 V.", 27 DGND (power) "Digital Ground. Must be tied to Ground.", 28 P1.5 (io) "Port 1.5. See Port Input/Output section for complete description.", 29 P1.4 (io) "Port 1.4. See Port Input/Output section for complete description.", 30 P1.3 (io) "Port 1.3. See Port Input/Output section for complete description.", 31 P1.2 (io) "Port 1.2. See Port Input/Output section for complete description.", 32 P1.1 (io) "Port 1.1. See Port Input/Output section for complete description.", 33 P1.0 (io) "Port 1.0. See Port Input/Output section for complete description.", 34 P2.7 (io) "Port 2.7. See Port Input/Output section for complete description.", 35 P2.6 (io) "Port 2.6. See Port Input/Output section for complete description.", 36 P2.5 (io) "Port 2.5. See Port Input/Output section for complete description.", 37 P2.4 (io) "Port 2.4. See Port Input/Output section for complete description.", 38 P2.3 (io) "Port 2.3. See Port Input/Output section for complete description.", 39 DGND (power) "Digital Ground. Must be tied to Ground.", 40 3.3DVDD (power) "Digital Supply Voltage. Must be tied to +2.7 to +3.6 V.", 41 P2.2 (io) "Port 2.2. See Port Input/Output section for complete description.", 42 P2.1 (io) "Port 2.1. See Port Input/Output section for complete description.", 43 P2.0 (io) "Port 2.0. See Port Input/Output section for complete description.", 44 P0.7 (io) "Port 0.7. See Port Input/Output section for complete description.", 45 P0.6 (io) "Port 0.6. See Port Input/Output section for complete description.", 46 P0.5 (io) "Port 0.5. See Port Input/Output section for complete description.", 47 P0.4 (io) "Port 0.4. See Port Input/Output section for complete description.", 48 P0.3 (io) "Port 0.3. See Port Input/Output section for complete description.", 49 P0.2 (io) "Port 0.2. See Port Input/Output section for complete description.", 50 P0.1/RX0 (io) "Port 0.1. See Port Input/Output section for complete description.", 51 P0.0/TX0 (io) "Port 0.0. See Port Input/Output section for complete description.", 52 TMS (in) "JTAG Test Mode Select with internal pullup.", 53 TCK (in) "JTAG Test Clock with internal pullup.", 54 DGND (power) "Digital Ground. Must be tied to Ground.", 55 3.3DVDD (power) "Digital Supply Voltage. Must be tied to +2.7 to +3.6 V.", 56 TDI (in) "JTAG Test Data Input with internal pullup.TDI is latched on the rising edge of TCK.", 57 TDO (out) "JTAG Test Data Output with internal pullup. Data is shifted out on TDO on the falling edge of TCK.  TDO output is a tri-state driver.", 58 ~{RST} (io) "Device Reset. Open-drain output of internal VDD monitor. Is driven low when VDD is < VRST and  MONEN is high. An external source can initiate  a system reset by driving this pin low.", 59 NC "No Connection.", 60 NC "No Connection.", 61 VREF (out) "Bandgap Voltage Reference Output", 62 NC "No Connection.", 63 MONEN (in) "VDD Monitor Enable. When tied high, this pin enables the internal VDD monitor, which forces a system reset when VDD is < VRST. When tied low, the internal VDD monitor is disabled. This pin must be tied high or low.", 64 NC "No Connection."

## C8051F066-GQ
designator U?
8051 Microcontroller, 25MIPS, 32KiB Flash, 256Byte RAM + 4KiB XRAM, 64KiB EMIF, Internal Oscillator, 5-16bit Timer, 2CH 1Msps 16bit +/-0.75INL ADC, 2 UART, I2C, SPI, PCA, 3 Comparator, 59GPIO.; Manufacture: Silicon Laboratories; Compliant: RoHS; CompliantInformationSource: Silicon Laboratries; PackageDocument: 2004-07; TempertureRange: Industrial (-40 to +85Cel); ComponentLink1Description: Manufacture Link; ComponentLink1URL: http://www.silabs.com/; ComponentLink2Description: Datasheet; ComponentLink2URL: https://www.silabs.com/Support Documents/TechnicalDocs/C8051F06x.pdf; DatasheetDocument: Rev. 1.2, 2004-07; PackageReference: TQFP-100; Published: 2006-05-07; Publisher: A and A System Co., Ltd.; DigiKeyPartNumber: 336-1221-ND
footprint TQFP-100/e0.5 (TQFP-100; Body Width 16mm; Pitch 0.5mm)
pins: 1 NC "No Connection.", 2 NC "No Connection.", 3 NC "No Connection.", 4 VREF (out) "Bandgap Voltage Reference Output", 5 VBGAP1 (out) "ADC1 Bandgap Bypass Pin.", 6 VREF1 (io) "Bandgap Voltage Reference Output for ADC1. ADC1 Voltage Reference Input.", 7 VRGND1 (in) "ADC1 Voltage Reference Ground. This pin should  be grounded if using the ADC.", 8 AIN1G (in) "ADC1 DC Bias Input (See ADC1 Specification for complete description).", 9 AIN1 (in) "ADC1 Signal Input (See ADC1 Specification for complete description).", 10 AGND (power) "Analog Ground. Must be tied to Ground.", 11 3.3AVDD (power) "Analog Supply Voltage. Must be tied to +2.7 to  +3.6 V.", 12 CNVSTR1 (in) "External Conversion Start Source for ADC1", 13 3.3AVDD (power) "Analog Supply Voltage. Must be tied to +2.7 to  +3.6 V.", 14 AGND (power) "Analog Ground. Must be tied to Ground.", 15 CNVSTR0 (in) "External Conversion Start Source for ADC0", 16 3.3AVDD (power) "Analog Supply Voltage. Must be tied to +2.7 to  +3.6 V.", 17 AGND (power) "Analog Ground. Must be tied to Ground.", 18 AIN0 (in) "ADC0 Input Channel 0 (See ADC0 Specification for complete description).", 19 AIN0G (in) "ADC0 DC Bias Input (See ADC0 Specification for complete description).", 20 VRGND0 (in) "ADC0 Voltage Reference Ground. This pin should  be grounded if using the ADC.", 21 VREF0 (io) "Bandgap Voltage Reference Output for ADC0. ADC0 Voltage Reference Input.", 22 VBGAP0 (out) "ADC0 Bandgap Bypass Pin.", 23 AGND (power) "Analog Ground. Must be tied to Ground.", 24 3.3AVDD (power) "Analog Supply Voltage. Must be tied to +2.7 to  +3.6 V.", 25 NC "No Connection.", 26 XTI (in) "Crystal Input. This pin is the return for the internal oscillator circuit for a crystal or ceramic resonator. For a precision internal clock, connect a crystal or ceramic resonator from XTAL1 to XTAL2. If overdriven by an external CMOS clock, this become", 27 XTO (out) "Crystal Output. This pin is the excitation driver for a crystal or ceramic resonator.", 28 MONEN (in) "VDD Monitor Enable. When tied high, this pin enables the internal VDD monitor, which forces a system reset when VDD is < VRST. When tied low, the internal VDD monitor is disabled. This pin must be tied high or low.", 29 P1.7/AIN2.7 (io) "Port 1.7. See Port Input/Output section for complete description. ADC2 Input Channel 7 (C8051F060/1/2/3 Only).", 30 P1.6/AIN2.6 (io) "Port 1.6. See Port Input/Output section for complete description. ADC2 Input Channel 6 (C8051F060/1/2/3 Only).", 31 P1.5/AIN2.5 (io) "Port 1.5. See Port Input/Output section for complete description. ADC2 Input Channel 5 (C8051F060/1/2/3 Only).", 32 P1.4/AIN2.4 (io) "Port 1.4. See Port Input/Output section for complete description. ADC2 Input Channel 4 (C8051F060/1/2/3 Only).", 33 P1.3/AIN2.3 (io) "Port 1.3. See Port Input/Output section for complete description. ADC2 Input Channel 3 (C8051F060/1/2/3 Only).", 34 P1.2/AIN2.2 (io) "Port 1.2. See Port Input/Output section for complete description. ADC2 Input Channel 2 (C8051F060/1/2/3 Only).", 35 P1.1/AIN2.1 (io) "Port 1.1. See Port Input/Output section for complete description. ADC2 Input Channel 1 (C8051F060/1/2/3 Only).", 36 P1.0/AIN2.0 (io) "Port 1.0. See Port Input/Output section for complete description. ADC2 Input Channel 0 (C8051F060/1/2/3 Only).", 37 3.3DVDD (power) "Digital Supply Voltage. Must be tied to +2.7 to +3.6 V.", 38 DGND (power) "Digital Ground. Must be tied to Ground.", 39 P2.7 (io) "Port 2.7. See Port Input/Output section for complete description.", 40 P2.6 (io) "Port 2.6. See Port Input/Output section for complete description.", 41 P2.5 (io) "Port 2.5. See Port Input/Output section for complete description.", 42 P2.4 (io) "Port 2.4. See Port Input/Output section for complete description.", 43 P2.3 (io) "Port 2.3. See Port Input/Output section for complete description.", 44 P2.2 (io) "Port 2.2. See Port Input/Output section for complete description.", 45 P2.1 (io) "Port 2.1. See Port Input/Output section for complete description.", 46 P2.0 (io) "Port 2.0. See Port Input/Output section for complete description.", 47 P3.7 (io) "Port 3.7. See Port Input/Output section for complete description.", 48 P3.6 (io) "Port 3.6. See Port Input/Output section for complete description.", 49 P3.5 (io) "Port 3.5. See Port Input/Output section for complete description.", 50 P3.4 (io) "Port 3.4. See Port Input/Output section for complete description.", 51 P3.3 (io) "Port 3.3. See Port Input/Output section for complete description.", 52 P3.2 (io) "Port 3.2. See Port Input/Output section for complete description.", 53 P3.1 (io) "Port 3.1. See Port Input/Output section for complete description.", 54 P3.0 (io) "Port 3.0. See Port Input/Output section for complete description.", 55 P0.7 (io) "Port 0.7. See Port Input/Output section for complete description.", 56 P0.6 (io) "Port 0.6. See Port Input/Output section for complete description.", 57 P0.5 (io) "Port 0.5. See Port Input/Output section for complete description.", 58 P0.4 (io) "Port 0.4. See Port Input/Output section for complete description.", 59 P0.3 (io) "Port 0.3. See Port Input/Output section for complete description.", 60 P0.2 (io) "Port 0.2. See Port Input/Output section for complete description.", 61 P0.1/RX0 (io) "Port 0.1. See Port Input/Output section for complete description.", 62 P0.0/TX0 (io) "Port 0.0. See Port Input/Output section for complete description.", 63 DGND (power) "Digital Ground. Must be tied to Ground.", 64 3.3DVDD (power) "Digital Supply Voltage. Must be tied to +2.7 to +3.6 V.", 65 P7.7/AD7m/D7 (io) "Port 7.7. See Port Input/Output section for complete description.", 66 P7.6/AD6m/D6 (io) "Port 7.6. See Port Input/Output section for complete description.", 67 P7.5/AD5m/D5 (io) "Port 7.5. See Port Input/Output section for complete description.", 68 P7.4/AD4m/D4 (io) "Port 7.4. See Port Input/Output section for complete description.", 69 P7.3/AD3m/D3 (io) "Port 7.3. See Port Input/Output section for complete description.", 70 P7.2/AD2m/D2 (io) "Port 7.2. See Port Input/Output section for complete description.", 71 P7.1/AD1m/D1 (io) "Port 7.1. See Port Input/Output section for complete description.", 72 P7.0/AD0m/D0 (io) "Port 7.0. Bit 0 External Memory Address/Data bus (Multiplexed mode) Bit 0 External Memory Data bus (Non-multiplexed mode) See Port Input/Output section for complete description.", 73 P6.7/A15m/A7 (io) "Port 6.7. See Port Input/Output section for complete description.", 74 P6.6/A14m/A6 (io) "Port 6.6. See Port Input/Output section for complete description.", 75 P6.5/A13m/A5 (io) "Port 6.5. See Port Input/Output section for complete description.", 76 P6.4/A12m/A4 (io) "Port 6.4. See Port Input/Output section for complete description.", 77 P6.3/A11m/A3 (io) "Port 6.3. See Port Input/Output section for complete description.", 78 P6.2/A10m/A2 (io) "Port 6.2. See Port Input/Output section for complete description.", 79 P6.1/A9m/A1 (io) "Port 6.1. See Port Input/Output section for complete description.", 80 P6.0/A8m/A0 (io) "Port6.0. Bit 8 External Memory Address bus (Multiplexed mode) Bit 0 External Memory Address bus (Non-multiplexed mode) See Port Input/Output section for complete description.", 81 P5.7/A15 (io) "Port 5.7. See Port Input/Output section for complete description.", 82 P5.6/A14 (io) "Port 5.6. See Port Input/Output section for complete description.", 83 P5.5/A13 (io) "Port 5.5. See Port Input/Output section for complete description.", 84 P5.4/A12 (io) "Port 5.4. See Port Input/Output section for complete description.", 85 P5.3/A11 (io) "Port 5.3. See Port Input/Output section for complete description.", 86 P5.2/A10 (io) "Port 5.2. See Port Input/Output section for complete description.", 87 P5.1/A9 (io) "Port 5.1. See Port Input/Output section for complete description.", 88 P5.0/A8 (io) "Port 5.0. Bit 8 External Memory Address bus (Non-multiplexed mode) See Port Input/Output section for complete description.", 89 DGND (power) "Digital Ground. Must be tied to Ground.", 90 3.3DVDD (power) "Digital Supply Voltage. Must be tied to +2.7 to +3.6 V.", 91 P4.7/~{WR} (io) "Port 4.7. WR Strobe for External Memory Address bus. See Port Input/Output section for complete description.", 92 P4.6/~{RD} (io) "P4.6. RD Strobe for External Memory Address bus. See Port Input/Output section for complete description.", 93 P4.5/ALE (io) "Port 4.5, ALE Strobe for External Memory Address bus (multiplexed mode) See Port Input/Output section for complete description.", 94 NC "No Connection.", 95 NC "No Connection.", 96 TMS (in) "JTAG Test Mode Select with internal pullup.", 97 TCK (in) "JTAG Test Clock with internal pullup.", 98 TDI (in) "JTAG Test Data Input with internal pullup.TDI is latched on the rising edge of TCK.", 99 TDO (out) "JTAG Test Data Output with internal pullup. Data is shifted out on TDO on the falling edge of TCK.  TDO output is a tri-state driver.", 100 ~{RST} (io) "Device Reset. Open-drain output of internal VDD monitor. Is driven low when VDD is < VRST and  MONEN is high. An external source can initiate  a system reset by driving this pin low."